# EAGLE library part CD40106BM96 (library open_covg)
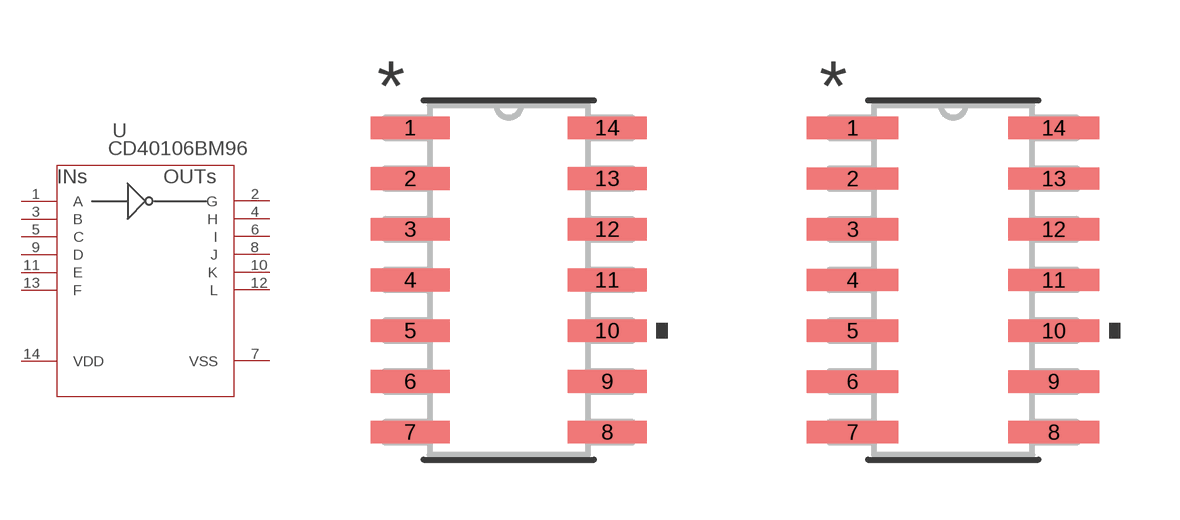
[diagram p20: symbol with the pads of D14_TEX; footprints D14_TEX, D14_TEX-M]

Designator prefix U

## CD40106BM96 (BUILT_BY: EMA_UL_Team; MANUFACTURER_PART_NUMBER: CD40106BM96; SOURCELIBRARY: TI_2015-1-6; VENDOR: Texas Instruments)  [D14_TEX]
1  A  in
2  G  out
3  B  in
4  H  out
5  C  in
6  I  out
7  VSS  pas
8  J  out
9  D  in
10  K  out
11  E  in
12  L  out
13  F  in
14  VDD  pas

## CD40106BM96D14_TEX-M (BUILT_BY: EMA_UL_Team; MANUFACTURER_PART_NUMBER: CD40106BM96; SOURCELIBRARY: TI_2015-1-6; VENDOR: Texas Instruments)  [D14_TEX-M]
Pads as for D14_TEX

## CD40106BM96D14_TEX-L (BUILT_BY: EMA_UL_Team; MANUFACTURER_PART_NUMBER: CD40106BM96; SOURCELIBRARY: TI_2015-1-6; VENDOR: Texas Instruments)  [D14_TEX-L]
Pads as for D14_TEX

## Footprint D14_TEX (pad centres in mm)
smd 1.97 x 0.568: 1 -2.464,3.81; 2 -2.464,2.54; 3 -2.464,1.27; 4 -2.464,0; 5 -2.464,-1.27; 6 -2.464,-2.54; 7 -2.464,-3.81; 8 2.464,-3.81; 9 2.464,-2.54; 10 2.464,-1.27; 11 2.464,0; 12 2.464,1.27; 13 2.464,2.54; 14 2.464,3.81

## Footprint D14_TEX-M (pad centres in mm)
smd 2.286 x 0.559: 1 -2.515,3.81; 2 -2.515,2.54; 3 -2.515,1.27; 4 -2.515,0; 5 -2.515,-1.27; 6 -2.515,-2.54; 7 -2.515,-3.81; 8 2.515,-3.81; 9 2.515,-2.54; 10 2.515,-1.27; 11 2.515,0; 12 2.515,1.27; 13 2.515,2.54; 14 2.515,3.81

## Footprint D14_TEX-L (pad centres in mm)
smd 1.676 x 0.508: 1 -2.413,3.81; 2 -2.413,2.54; 3 -2.413,1.27; 4 -2.413,0; 5 -2.413,-1.27; 6 -2.413,-2.54; 7 -2.413,-3.81; 8 2.413,-3.81; 9 2.413,-2.54; 10 2.413,-1.27; 11 2.413,0; 12 2.413,1.27; 13 2.413,2.54; 14 2.413,3.81